# Altium footprint library Discrete_semiconductors.PcbLib: 48 footprints (part 3 of 3)
Each footprint in its own frame and in the unit in brackets; x right, y up, seen from the top. Pads: shape width x height; smd on the part's side, far side on the other; paste and mask are expansions set on the pad; w line width, h text height; cw(c..) or ccw(c..) is an arc to the next point about the centre after c.
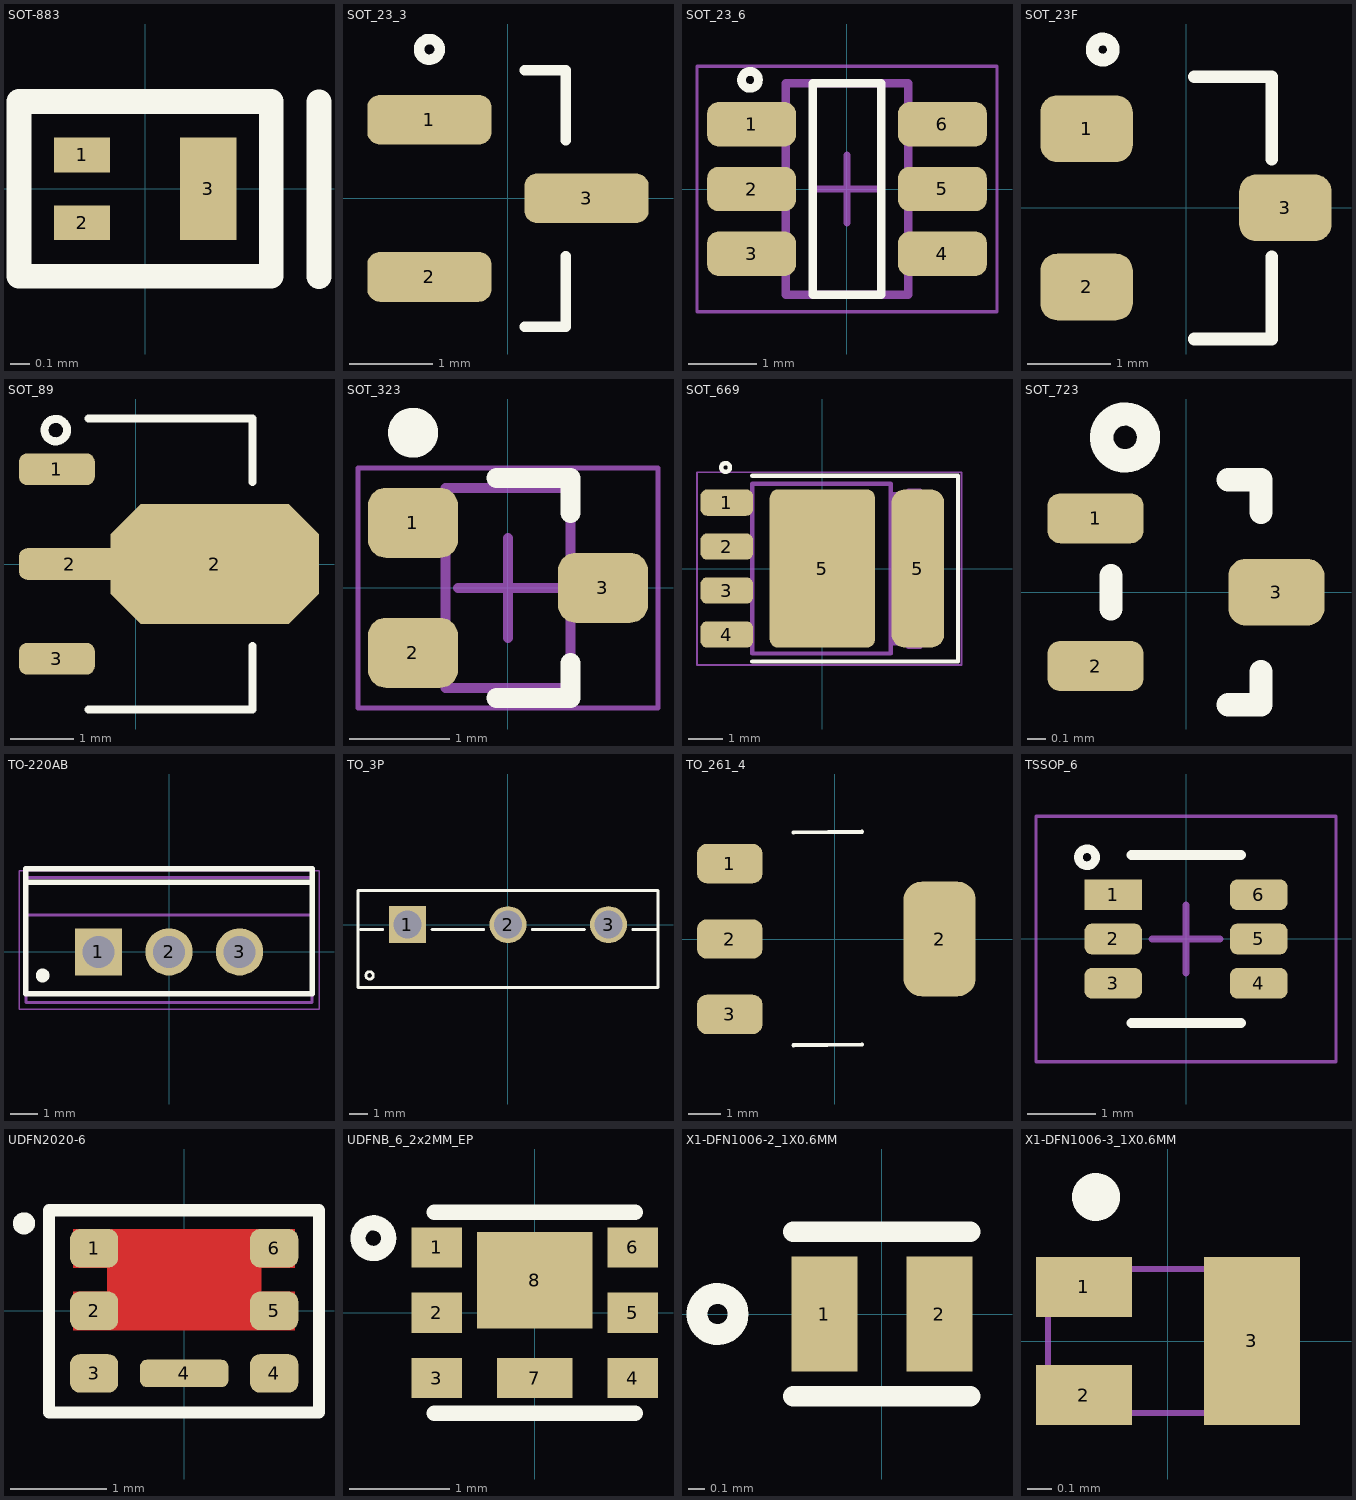
[diagram p2: the footprints below, top view; thin cyan lines are the x and y axes]

## SOT-883 [mm] "20220103 / A-F.Romo"
pads (3):
  rect 0.29x0.18 smd: 1(-0.325,0.175) 2(-0.325,-0.175)
  rect 0.29x0.53 smd: 3(0.325,0)
Top Overlay:
  lines w0.127: 0.896,-0.452 0.896,0.448 ; -0.65,-0.45 0.65,-0.45 0.65,0.45 -0.65,0.45 -0.65,-0.45
3D body "BAT54CM,315.stp": height 0.6, standoff 0, extent -0.525,-0.325 0.51,0.325

## SOT_23_3 [mm] "TO-236-3, SC-59/ 20190613 / J-P.Vargas.A"
pads (3):
  rrect50% 1.5x0.6 smd: 1(-0.95,0.95) 2(-0.95,-0.95) 3(0.95,0)
Top Overlay:
  circle w0.127: c-0.95,1.8 r0.125
  lines w0.127: 0.2,-1.55 0.7,-1.55 0.7,-0.7 ; 0.2,1.55 0.7,1.55 0.7,0.7
3D body "S-Mini-ZKN.step": height 1.15, standoff 0, extent -1.25,-1.45 1.25,1.45

## SOT_23_6 [mm] "/ 20220107 / J-E.Pachon"
height 1.45
pads (6):
  rrect50% 1.3x0.65 smd: 1(-1.4,0.95) 2(-1.4,0) 3(-1.4,-0.95) 4(1.4,-0.95) 5(1.4,0) 6(1.4,0.95)
Top Overlay:
  circle w0.127: c-1.422,1.6 r0.125
  lines w0.127: -0.5,-1.55 0.5,-1.55 0.5,1.55 -0.5,1.55 -0.5,-1.55
Mechanical 1:
  lines w0.127: -0.9,-1.55 0.9,-1.55 0.9,1.55 -0.9,1.55 -0.9,-1.55
Mechanical 15:
  lines w0.05: -2.2,-1.8 -2.2,1.8 2.2,1.8 2.2,-1.8 -2.2,-1.8
  lines w0.1: -0.5,0 0.5,0 ; 0,-0.5 0,0.5
3D body "SOT23-6-2.step": height 1.45, standoff 0, extent -1.501,-1.45 1.299,1.45

## SOT_23F [mm] "/ 20220728 / F-A.Ospina"
pads (3):
  rrect50% 1.11x0.8 smd: 1(-1.194,0.95) 2(-1.194,-0.95) 3(1.194,0)
Top Overlay:
  circle w0.152: c-1,1.9 r0.127
  lines w0.152: 0.1,-1.575 1.029,-1.575 1.029,-0.587 ; 0.1,1.575 1.029,1.575 1.029,0.587
3D body "SOT-23F.step": height 0.8, standoff 0, extent -1.197,-1.443 1.203,1.458

## SOT_89 [mm] "/20210416/V-A.Patino"
pads (4):
  rrect50% 1.2x0.5 smd: 1(-1.25,1.5) 3(-1.25,-1.5)
  rrect50% 1.6x0.5 smd: 2(-1.05,0)
  oct 3.3x1.9 smd: 2(1.25,0)
Top Overlay:
  circle w0.127: c-1.268,2.12 r0.178
  lines w0.127: -0.75,-2.3 1.85,-2.3 1.85,-1.3 ; -0.75,2.3 1.85,2.3 1.85,1.3
3D body: height 1.6, standoff 0, extent -0.745,-2.3 1.845,2.3

## SOT_323 [mm] "SC-70 / 20190711 / C-A.Serna.A"
height 1
pads (3):
  rrect50% 0.9x0.7 smd: 1(-0.95,0.65) 2(-0.95,-0.65) 3(0.95,0)
Top Overlay:
  circle w0.25: c-0.95,1.55 r0.125
  lines w0.2: -0.113,-1.1 0.625,-1.1 0.625,-0.75 ; -0.113,1.1 0.625,1.1 0.625,0.75
Mechanical 1:
  lines w0.1: -0.625,-1 -0.625,1 0.625,1 0.625,-1 -0.625,-1
Mechanical 15:
  lines w0.05: -1.5,-1.2 -1.5,1.2 1.5,1.2 1.5,-1.2 -1.5,-1.2
  lines w0.1: -0.5,0 0.5,0 ; 0,-0.5 0,0.5
3D body: height 1, standoff 0, extent -0.625,-1 0.625,1

## SOT_669 [mm] "LFPAK, SC-100/ 20190611 / J-P.Vargas.A"
pads (6):
  rrect50% 1.52x0.76 smd: 1(-2.76,1.905) 2(-2.76,0.635) 3(-2.76,-0.635) 4(-2.76,-1.905)
  rrect15% 3.04x4.57 smd: 5(0,0)
  rrect50% 1.52x4.57 smd: 5(2.76,0)
Top Overlay:
  circle w0.127: c-2.794,2.921 r0.127
  lines w0.127: -2.022,-2.685 3.92,-2.685 3.92,2.685 -2.022,2.685
Mechanical 1:
  lines w0.127: -2.022,-2.16 -2.072,-2.16 -2.455,-2.16 -2.537,-2.16 -2.7,-2.16 -3.25,-2.16 -3.25,-1.66 -2.7,-1.66 -2.537,-1.66 -2.455,-1.66 -2.072,-1.66 -2.022,-1.66 ; -2.022,-0.89 -2.072,-0.89 -2.455,-0.89 -2.537,-0.89 -2.7,-0.89 -3.25,-0.89 -3.25,-0.39 -2.7,-0.39 -2.537,-0.39 -2.455,-0.39 -2.072,-0.39 -2.022,-0.39 ; -2.022,0.38 -2.072,0.38 -2.455,0.38 -2.537,0.38 -2.7,0.38 -3.25,0.38 -3.25,0.88 -2.7,0.88 -2.537,0.88 -2.455,0.88 -2.072,0.88 -2.022,0.88 ; -2.022,1.65 -2.072,1.65 -2.455,1.65 -2.537,1.65 -2.7,1.65 -3.25,1.65 -3.25,2.15 -2.7,2.15 -2.537,2.15 -2.455,2.15 -2.072,2.15 -2.022,2.15 ; -2.007,-2.44 -2.022,-2.455 ; -2.007,2.43 -2.022,2.445 ; 1.963,-2.44 1.978,-2.455 ; 1.963,2.43 1.978,2.445 ; 1.978,-2.155 2.478,-2.155 2.478,-2.255 2.828,-2.255 2.828,-2.155 3.078,-2.155 ccw(c3.078,-2.055) 3.178,-2.055 3.178,2.045 ccw(c3.078,2.045) 3.078,2.145 2.828,2.145 2.828,2.245 2.478,2.245 2.478,2.145 1.978,2.145 ; 1.978,-1.055 2.035,-1.055 ccw(c2.035,-0.955) 2.135,-0.955 2.135,0.945 ccw(c2.035,0.945) 2.035,1.045 1.978,1.045 ; -2.022,-2.455 1.978,-2.455 ; -2.022,-2.455 -2.022,2.445 ; -2.022,2.445 1.978,2.445 ; 1.978,-2.455 1.978,2.445
Mechanical 15:
  lines w0.05: -3.62,-2.785 4.02,-2.785 4.02,2.785 -3.62,2.785 -3.62,-2.785
  lines w0.1: -0.5,0 0.5,0 ; 0,-0.5 0,0.5
3D body "LFPAK.stp": height 1.18, standoff -0.02, extent -3.228,-2.45 3.2,2.45

## SOT_723 [mm] "/ 20190225 / C-A.Serna.A"
pads (3):
  rrect50% 0.52x0.27 smd: 1(-0.49,0.4) 2(-0.49,-0.4)
  rrect50% 0.52x0.36 smd: 3(0.49,0)
Top Overlay:
  circle w0.127: c-0.33,0.838 r0.127
  lines w0.127: -0.406,-0.089 -0.406,0.089 ; 0.229,-0.61 0.406,-0.61 0.406,-0.432 ; 0.229,0.61 0.406,0.61 0.406,0.432
3D body: height 0.25, standoff 0, extent -0.4,-0.6 0.4,0.6

## TO-220AB [mm] "TO-220AB / 20200623 / C-E.Rincon"
pads (3):
  rect 1.7x1.7 hole 1.143: 1(-2.54,0)
  round 1.7 hole 1.143: 2(0,0) 3(2.54,0)
Top Overlay:
  circle w0.25: c-4.547,-0.848 r0.125
  lines w0.2: -5.15,2.5 5.15,2.5 ; -5.15,-1.5 5.15,-1.5 5.15,3 -5.15,3 -5.15,-1.5
Top 3D Body (Mech13):
  lines w0.1: -5.15,1.33 5.15,1.33 ; -5.15,-1.82 -5.15,2.68 5.15,2.68 5.15,-1.82 -5.15,-1.82
Mechanical 15:
  lines w0.05: -5.4,-2.07 -5.4,2.93 5.4,2.93 5.4,-2.07 -5.4,-2.07
  lines w0.1: -0.5,0 0.5,0 ; 0,-0.5 0,0.5
3D body: height 19.1, standoff 18.1, extent -5,1.33 5,2.68
3D body: height 16.62, standoff 16.25, extent 1.85,1.33 5,2.68
3D body: height 16.62, standoff 16.25, extent -5,1.33 -1.85,2.68
3D body: height 16.25, standoff 15.89, extent 1.85,1.33 5,2.68
3D body: height 16.25, standoff 15.89, extent -5,1.33 -1.85,2.68
3D body: height 16.96, standoff 16.61, extent 1.814,1.33 5,2.68
3D body: height 16.96, standoff 16.61, extent -5,1.33 -1.814,2.68
3D body: height 15.89, standoff 15.54, extent 1.814,1.33 5,2.68
3D body: height 15.89, standoff 15.54, extent -5,1.33 -1.814,2.68
3D body: height 17.28, standoff 16.96, extent 1.709,1.33 5,2.68
3D body: height 17.28, standoff 16.96, extent -5,1.33 -1.709,2.68
3D body: height 15.55, standoff 15.22, extent 1.709,1.33 5,2.68
3D body: height 15.55, standoff 15.22, extent -5,1.33 -1.709,2.68
3D body: height 17.56, standoff 17.28, extent 1.538,1.33 5,2.68
3D body: height 17.56, standoff 17.28, extent -5,1.33 -1.538,2.68
3D body: height 15.23, standoff 14.94, extent 1.538,1.33 5,2.68
3D body: height 15.23, standoff 14.94, extent -5,1.33 -1.538,2.68
3D body: height 17.79, standoff 17.56, extent 1.308,1.33 5,2.68
3D body: height 17.79, standoff 17.56, extent -5,1.33 -1.308,2.68
3D body: height 14.95, standoff 14.71, extent 1.308,1.33 5,2.68
3D body: height 14.95, standoff 14.71, extent -5,1.33 -1.308,2.68
3D body: height 17.96, standoff 17.79, extent 1.028,1.33 5,2.68
3D body: height 17.96, standoff 17.79, extent -5,1.33 -1.028,2.68
3D body: height 14.72, standoff 14.54, extent 1.028,1.33 5,2.68
3D body: height 14.72, standoff 14.54, extent -5,1.33 -1.028,2.68
3D body: height 18.07, standoff 17.96, extent 0.708,1.33 5,2.68
3D body: height 18.07, standoff 17.96, extent -5,1.33 -0.708,2.68
3D body: height 14.55, standoff 14.44, extent 0.708,1.33 5,2.68
3D body: height 14.55, standoff 14.44, extent -5,1.33 -0.708,2.68
3D body: height 18.1, standoff 18.06, extent 0.361,1.33 5,2.68
3D body: height 18.1, standoff 18.06, extent -5,1.33 -0.361,2.68
3D body: height 14.44, standoff 14.4, extent 0.361,1.33 5,2.68
3D body: height 14.44, standoff 14.4, extent -5,1.33 -0.361,2.68
3D body: height 14.4, standoff 12.95, extent -5,1.33 5,2.68
3D body: height 12.95, standoff 2.79, extent -5.15,-1.82 5.15,2.68
3D body: height 0, standoff -1.6, extent 2.165,-0.275 2.915,0.275
3D body: height 2.79, standoff 0, extent 1.965,-0.275 3.115,0.275
3D body: height 0, standoff -1.6, extent -0.375,-0.275 0.375,0.275
3D body: height 2.79, standoff 0, extent -0.575,-0.275 0.575,0.275
3D body: height 0, standoff -1.6, extent -2.915,-0.275 -2.165,0.275
3D body: height 2.79, standoff 0, extent -3.115,-0.275 -1.965,0.275

## TO_3P [mil] "/20220523/F-A.Ospina"
pads (3):
  rect 79x79 hole 60: 1(-214.57,0)
  round 79 hole 60: 2(0,0) 3(214.57,0)
Top Overlay:
  circle w6: c-295.28,-108.27 r8
  lines w6: -315,-10.09 -267.17,-10.09 ; -161.97,-10.09 -51.62,-10.09 ; 51.62,-10.09 162.94,-10.09 ; 266.19,-10.09 315,-10.09 ; -320,-134.09 320,-134.09 320,72.91 -320,72.91 -320,-134.09
3D body "TNPN_MT-100_TO3P__SNK.step": height 952.99, standoff -295.98, extent -314.99,-129.09 315.01,67.92

## TO_261_4 [mm] "TO-261AA, SOT-223 / 20190225 / C-A.Serna.A"
pads (4):
  rrect50% 2x1.2 smd: 1(-3.2,2.3) 2(-3.2,0) 3(-3.2,-2.3)
  rrect50% 2.2x3.5 smd: 2(3.2,0)
Top Overlay:
  lines w0.127: -1.253,-3.24 0.83,-3.22 ; -1.253,3.25 0.83,3.27
3D body "Transistor-SOT-223-2.stp": height 1.7, standoff 0.02, extent -3.48,-3.25 3.48,3.25

## TSSOP_6 [mm] "/ 20230220/N-A.Potosi"
height 1.45
pads (6):
  rect 0.85x0.45 smd: 1(-1.067,0.65)
  rrect50% 0.85x0.45 smd: 2(-1.067,0) 3(-1.067,-0.65) 4(1.067,-0.65) 5(1.067,0) 6(1.067,0.65)
Top Overlay:
  circle w0.127: c-1.451,1.199 r0.125
  lines w0.152: -0.8,-1.232 0.8,-1.232 ; -0.8,1.232 0.8,1.232
Mechanical 15:
  lines w0.05: -2.2,-1.8 -2.2,1.8 2.2,1.8 2.2,-1.8 -2.2,-1.8
  lines w0.1: -0.5,0 0.5,0 ; 0,-0.5 0,0.5
3D body "TSSOP6_SOT363_NEX.step": height 1.09, standoff 0, extent -1.105,-1.105 1.105,1.105

## UDFN2020-6 [mm] "20220601 / E.Naranjo"
pads (7):
  rrect50% 0.5x0.4 smd mask+0.051: 1(-0.935,0.65) 2(-0.935,0) 3(-0.935,-0.65) 4(0.935,-0.65) 5(0.935,0) 6(0.935,0.65)
  rrect50% 0.92x0.285 smd mask+0.051: 4(0,-0.65)
Top Layer:
  region: 1.15,-0.2 -1.15,-0.2 -1.15,0.2 -0.8,0.2 -0.8,0.45 -1.15,0.45 -1.15,0.85 1.15,0.85 1.15,0.45 0.8,0.45 0.8,0.2 1.15,0.2
Top Overlay:
  circle w0.127: c-1.664,0.908 r0.052
  lines w0.127: -1.404,-1.055 1.4,-1.055 1.4,1.045 -1.404,1.045 -1.404,-1.055
Top Paste:
  region: 1.15,-0.2 -1.15,-0.2 -1.15,0.2 -0.8,0.2 -0.8,0.45 -1.15,0.45 -1.15,0.85 1.15,0.85 1.15,0.45 0.8,0.45 0.8,0.2 1.15,0.2
Top Solder:
  region: 1.15,-0.2 -1.15,-0.2 -1.15,0.2 -0.8,0.2 -0.8,0.45 -1.15,0.45 -1.15,0.85 1.15,0.85 1.15,0.45 0.8,0.45 0.8,0.2 1.15,0.2
3D body "U-DFN2020-6.stp": height 0.61, standoff 0.01, extent -1,-1 1,1

## UDFNB_6_2x2MM_EP [mm] "WDFN_6_EP/20220428/V-A.Patino"
pads (8):
  rect 0.5x0.4 smd: 1(-0.975,0.65) 2(-0.975,0) 3(-0.975,-0.65) 4(0.975,-0.65) 5(0.975,0) 6(0.975,0.65)
  rect 0.75x0.4 smd: 7(0,-0.65)
  rect 1.15x0.96 smd: 8(0,0.325)
Top Overlay:
  circle w0.152: c-1.606,0.741 r0.152
  lines w0.152: -1,-1 1,-1 ; -1,1 1,1
3D body "UDFN6B_z90.stp": height 0.79, standoff 0.01, extent -1,-1 1,1

## X1-DFN1006-2_1X0.6MM [mm] "20220103 / A-F.Romo"
pads (2):
  rect 0.4x0.7 smd: 1(-0.35,0) 2(0.35,0)
Top Overlay:
  circle w0.127: c-1,0 r0.125
  lines w0.127: -0.537,-0.5 0.538,-0.5 ; -0.537,0.5 0.538,0.5
3D body "Diode_Diodes_Inc_BAS70LP-7B_eec.STEP": height 0.53, standoff 0, extent -0.5,-0.3 0.5,0.3

## X1-DFN1006-3_1X0.6MM [mm] "UFDFN-3 / 20211220 /  E.Naranjo"
pads (3):
  rect 0.4x0.25 smd: 1(-0.35,0.225) 2(-0.35,-0.225)
  rect 0.4x0.7 smd: 3(0.35,0)
Top Overlay:
  circle w0.1: c-0.3,0.6 r0.05
Mechanical 1:
  lines w0.025: -0.5,-0.3 0.5,-0.3 0.5,0.3 -0.5,0.3 -0.5,-0.3
3D body "DMN1150UFB-7B--3DModel-STEP-1.STEP": height 0.51, standoff -0.02, extent -0.512,-0.299 0.488,0.301